# Altium schematic symbol library FOXSDLF_128-20.SchLib: 1 symbol
Pins are listed as number, name and electrical type; pins without a type are passive.

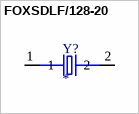
[diagram p0: symbol FOXSDLF/128-20]

## FOXSDLF/128-20
designator Y?
12.288 MHz Â±30ppm Crystal 20pF 60 Ohms HC-49/US; MF: Fox Electronics; MP: FOXSDLF/128-20; SnapEDA_Link: https://www.snapeda.com/parts/FOXSDLF/128-20/Fox+Electronics/view-part/?ref=snap; Package: HC49SD Fox Electronics; Value: *; Check_prices: https://www.snapeda.com/parts/FOXSDLF/128-20/Fox+Electronics/view-part/?ref=eda
footprint XTAL1170X500X450
pins: 1, 2